# Altium schematic symbol library IC_Micron_MT41J256M16HA-125-E_eec.SchLib: 1 symbol
Pins are listed as number, name and electrical type; pins without a type are passive.

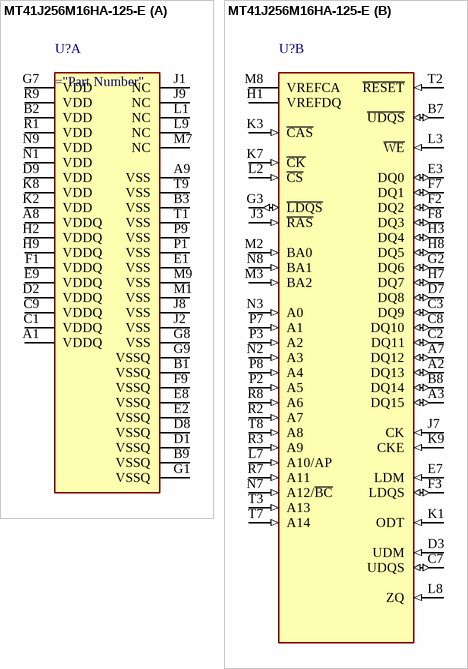
[diagram p0: symbol MT41J256M16HA-125-E]

## MT41J256M16HA-125-E
designator U?  (value not drawn)
part A pins: A1 VDDQ (power), A8 VDDQ (power), A9 VSS (power), B1 VSSQ (power), B2 VDD (power), B3 VSS (power), B9 VSSQ (power), C1 VDDQ (power), C9 VDDQ (power), D1 VSSQ (power), D2 VDDQ (power), D8 VSSQ (power), D9 VDD (power), E1 VSS (power), E2 VSSQ (power), E8 VSSQ (power), E9 VDDQ (power), F1 VDDQ (power), F9 VSSQ (power), G1 VSSQ (power), G7 VDD (power), G8 VSS (power), G9 VSSQ (power), H2 VDDQ (power), H9 VDDQ (power), J1 NC, J2 VSS (power), J8 VSS (power), J9 NC, K2 VDD (power), K8 VDD (power), L1 NC, L9 NC, M1 VSS (power), M7 NC, M9 VSS (power), N1 VDD (power), N9 VDD (power), P1 VSS (power), P9 VSS (power), R1 VDD (power), R9 VDD (power), T1 VSS (power), T9 VSS (power)
part B pins: A2 DQ13 (io), A3 DQ15 (io), A7 DQ12 (io), B7 ~{UDQS} (io), B8 DQ14 (io), C2 DQ11 (io), C3 DQ9 (io), C7 UDQS (io), C8 DQ10 (io), D3 UDM (in), D7 DQ8 (io), E3 DQ0 (io), E7 LDM (in), F2 DQ2 (io), F3 LDQS (io), F7 DQ1 (io), F8 DQ3 (io), G2 DQ6 (io), G3 ~{LDQS} (io), H1 VREFDQ (power), H3 DQ4 (io), H7 DQ7 (io), H8 DQ5 (io), J3 ~{RAS} (in), J7 CK (in), K1 ODT (in), K3 ~{CAS} (in), K7 ~{CK} (in), K9 CKE (in), L2 ~{CS} (in), L3 ~{WE} (in), L7 A10/AP (in), L8 ZQ (in), M2 BA0 (in), M3 BA2 (in), M8 VREFCA (power), N2 A3 (in), N3 A0 (in), N7 A12/~{BC} (in), N8 BA1 (in), P2 A5 (in), P3 A2 (in), P7 A1 (in), P8 A4 (in), R2 A7 (in), R3 A9 (in), R7 A11 (in), R8 A6 (in), T2 ~{RESET} (in), T3 A13 (in), T7 A14 (in), T8 A8 (in)